# Altium schematic symbol library ESP32-WROOM-32D.SchLib: 1 symbol
Pins are listed as number, name and electrical type; pins without a type are passive.

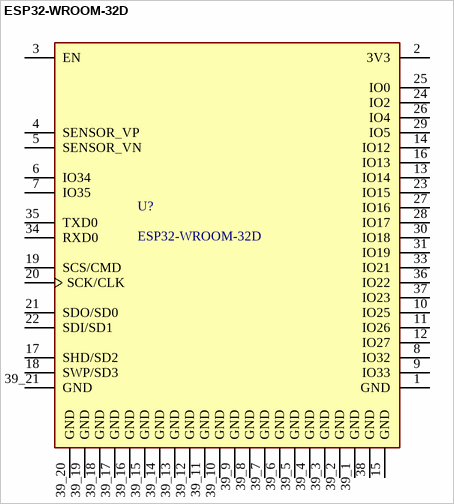
[diagram p0: symbol ESP32-WROOM-32D]

## ESP32-WROOM-32D
designator U?
Bluetooth, WiFi 802.11b/g/n, Bluetooth v4.2 +EDR, Class 1, 2 and 3 Transceiver Module 2.4GHz ~ 2.5GHz Integrated; MF: Espressif Systems; SnapEDA_Link: https://www.snapeda.com/parts/ESP32-WROOM-32D/Espressif+Systems/view-part/?ref=snap; Package: Non Standard Espressif Systems; Value: *; MP: ESP32-WROOM-32D; Check_prices: https://www.snapeda.com/parts/ESP32-WROOM-32D/Espressif+Systems/view-part/?ref=eda
footprint MODULE_ESP32-WROOM-32D
pins: 1 GND, 2 3V3, 3 EN, 4 SENSOR_VP, 5 SENSOR_VN, 6 IO34, 7 IO35, 8 IO32, 9 IO33, 10 IO25, 11 IO26, 12 IO27, 13 IO14, 14 IO12, 15 GND, 16 IO13, 17 SHD/SD2, 18 SWP/SD3, 19 SCS/CMD, 20 SCK/CLK, 21 SDO/SD0, 22 SDI/SD1, 23 IO15, 24 IO2, 25 IO0, 26 IO4, 27 IO16, 28 IO17, 29 IO5, 30 IO18, 31 IO19, 33 IO21, 34 RXD0, 35 TXD0, 36 IO22, 37 IO23, 38 GND, 39_1 GND, 39_2 GND, 39_3 GND, 39_4 GND, 39_5 GND, 39_6 GND, 39_7 GND, 39_8 GND, 39_9 GND, 39_10 GND, 39_11 GND, 39_12 GND, 39_13 GND, 39_14 GND, 39_15 GND, 39_16 GND, 39_17 GND, 39_18 GND, 39_19 GND, 39_20 GND, 39_21 GND